# EAGLE library part KRC86BV4.0 (library KRC86BV4.0)
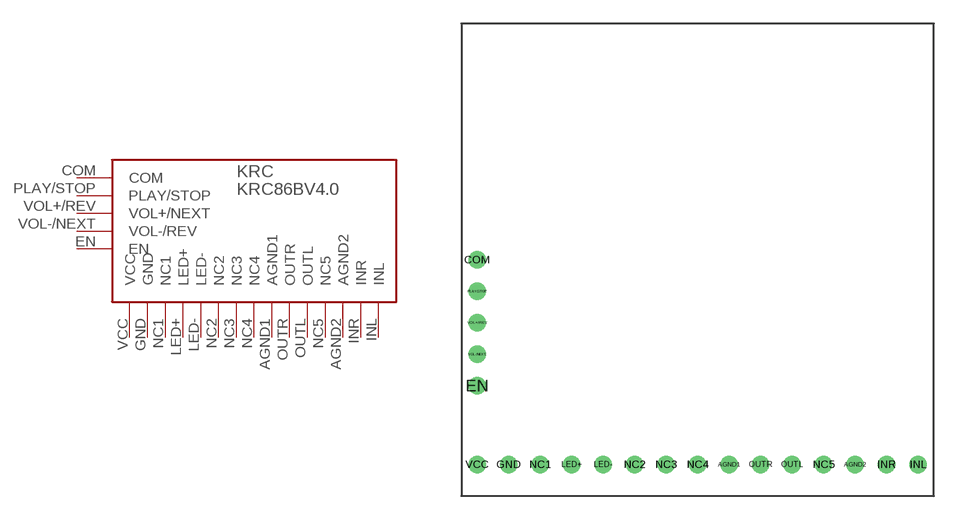
[diagram p0: symbol with the pads of KRC86BV4.0; footprint KRC86BV4.0]

Designator prefix KRC

## KRC86BV4.0  [KRC86BV4.0]
AGND1  AGND1
AGND2  AGND2
COM  COM
EN  EN
GND  GND
INL  INL
INR  INR
LED+  LED+
LED-  LED-
NC1  NC1
NC2  NC2
NC3  NC3
NC4  NC4
NC5  NC5
OUTL  OUTL
OUTR  OUTR
PLAY/STOP  PLAY/STOP
VCC  VCC
VOL+/REV  VOL+/NEXT
VOL-/NEXT  VOL-/REV

## Footprint KRC86BV4.0 (pad centres in mm)
drill 0.6 pad 1.016: AGND1 17,-28; AGND2 25,-28; COM 1,-15; EN 1,-23; GND 3,-28; INL 29,-28; INR 27,-28; LED+ 7,-28; LED- 9,-28; NC1 5,-28; NC2 11,-28; NC3 13,-28; NC4 15,-28; NC5 23,-28; OUTL 21,-28; OUTR 19,-28; PLAY/STOP 1,-17; VCC 1,-28; VOL+/REV 1,-19; VOL-/NEXT 1,-21